# Altium footprint library AS5600.PcbLib: 8 footprints
Each footprint in its own frame and in the unit in brackets; x right, y up, seen from the top. Pads: shape width x height; smd on the part's side, far side on the other; paste and mask are expansions set on the pad; w line width, h text height; cw(c..) or ccw(c..) is an arc to the next point about the centre after c.
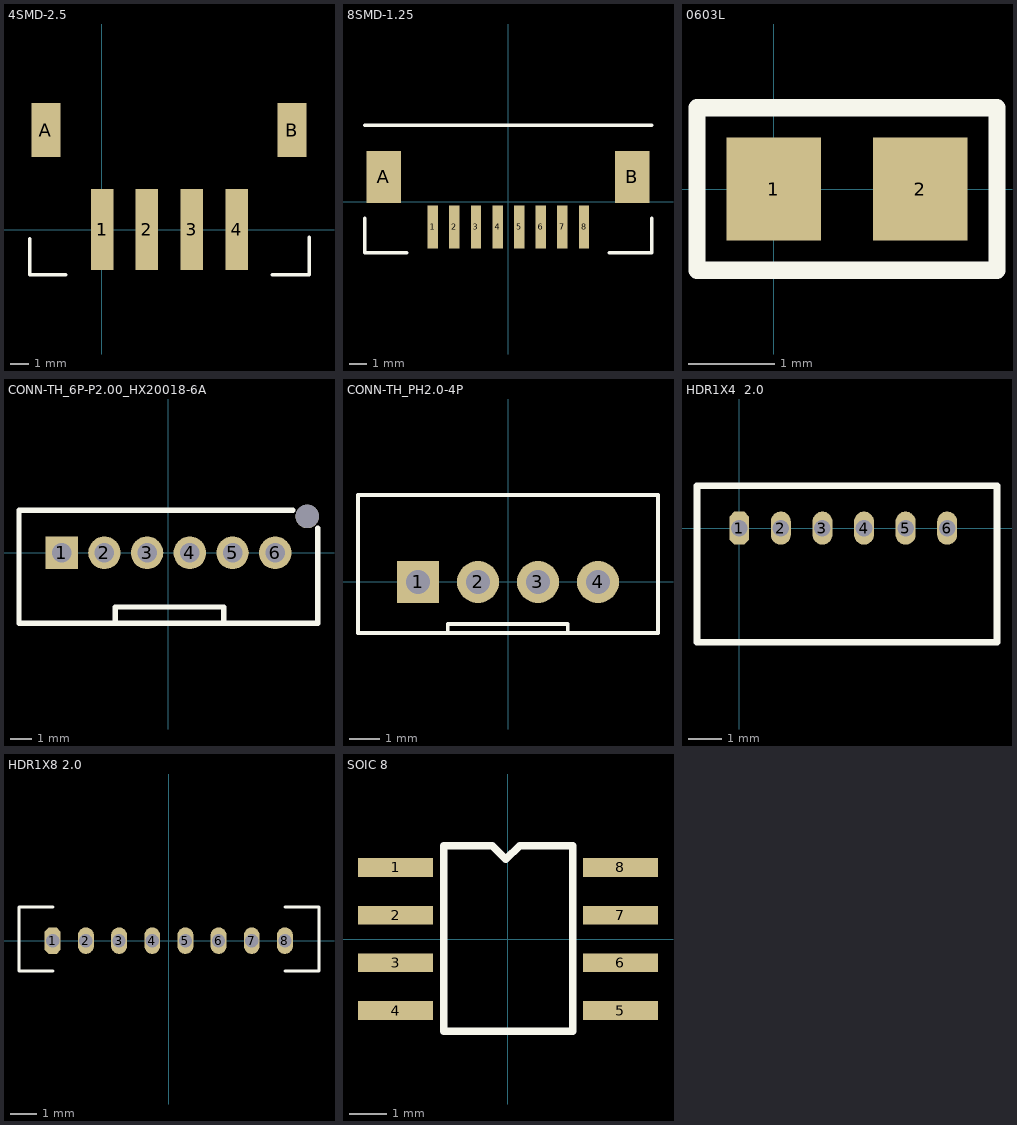
[diagram p0: the footprints below, top view; thin cyan lines are the x and y axes]

## 4SMD-2.5 [mm]
pads (7):
  rect 1.25x4.5 smd: 1(0.022,0.009) 1(0.022,0.009) 2(2.522,0.009) 3(5.022,0.009) 4(7.522,0.009)
  rect 1.6x3 smd: A(-3.1,5.55) B(10.6,5.55)
Top Overlay:
  lines w0.2: -4,-0.507 -4,-2.507 -2,-2.507 ; 9.5,-2.507 11.557,-2.507 11.557,-0.413

## 8SMD-1.25 [mm]
pads (10):
  rect 0.6x2.5 smd: 1(-4.353,-1.446) 2(-3.103,-1.446) 3(-1.853,-1.446) 4(-0.603,-1.446) 5(0.647,-1.446) 6(1.897,-1.446) 7(3.147,-1.446) 8(4.397,-1.446)
  rect 2x3 smd: A(-7.175,1.446) B(7.175,1.446)
Top Overlay:
  lines w0.2: -8.275,-0.946 -8.275,-2.946 -5.853,-2.946 ; -8.275,4.446 8.325,4.446 ; 5.853,-2.946 8.325,-2.946 8.325,-0.946

## 0603L [mm]
pads (2):
  rect 1.1x1.2 smd: 1(0,0) 2(1.7,0)
Top Overlay:
  lines w0.2: -0.896,-0.946 -0.896,0.946 2.596,0.946 2.596,-0.946 -0.896,-0.946

## CONN-TH_6P-P2.00_HX20018-6A [mil]
pads (7):
  rect 60x60 hole 36: 1(-196.85,0)
  round 60 hole 36: 2(-118.11,0) 3(-39.37,0) 4(39.37,0) 5(118.11,0) 6(196.85,0)
  round 43.31 hole 43.31 unplated: ""(255.91,66.93)
Top Overlay:
  lines w10: -98.42,-129.92 -98.42,-99.92 101.58,-99.92 101.58,-124.92 ; 229.13,78.74 -275.59,78.74 -275.59,-129.92 275.59,-129.92 275.59,45.33

## CONN-TH_PH2.0-4P [mm]
pads (4):
  rect 1.4x1.4 hole 0.813: 1(-3,0)
  round 1.4 hole 0.813: 2(-1,0) 3(1,0) 4(3,0)
Top Overlay:
  lines w0.13: 1.991,-1.7 1.991,-1.4 -2.009,-1.4 -2.009,-1.7 ; -2.009,-1.7 5,-1.7 5,2.9 -5,2.9 -5,-1.7 -2.009,-1.7

## HDR1X4  2.0 [mm]
pads (6):
  oct 0.6x1 hole 0.5: 1(0,0)
  oval 0.6x1 hole 0.5: 2(1.25,0) 3(2.5,0) 4(3.75,0) 5(5,0) 6(6.25,0)
Top Overlay:
  lines w0.2: 7.747,-3.429 7.747,1.27
  lines w0.203: 7.747,-3.429 -1.27,-3.429 -1.27,1.27 7.747,1.27

## HDR1X8 2.0 [mm]
pads (8):
  oct 0.6x1 hole 0.5: 1(-4.375,0)
  oval 0.6x1 hole 0.5: 2(-3.125,0) 3(-1.875,0) 4(-0.625,0) 5(0.625,0) 6(1.875,0) 7(3.125,0) 8(4.375,0)
Top Overlay:
  lines w0.12: -4.375,-1.143 -5.645,-1.143 -5.645,1.27 -4.375,1.27 ; 4.388,-1.143 5.658,-1.143 5.658,1.27 4.388,1.27

## SOIC 8 [mm]
pads (8):
  rect 2x0.5 smd: 1(-2.993,1.905) 2(-2.993,0.635) 3(-2.993,-0.635) 4(-2.993,-1.905) 5(2.993,-1.905) 6(2.993,-0.635) 7(2.993,0.635) 8(2.993,1.905)
Top Overlay:
  lines w0.2: -1.705,2.45 -1.705,1.225 -1.705,-1.225 -1.705,-2.45 1.724,-2.45 1.724,2.45 ; -1.705,2.485 -0.415,2.485 -0.054,2.124 0.307,2.485 1.724,2.485